# EAGLE library part TC4427ACOA713 (library MotorBoardDev)
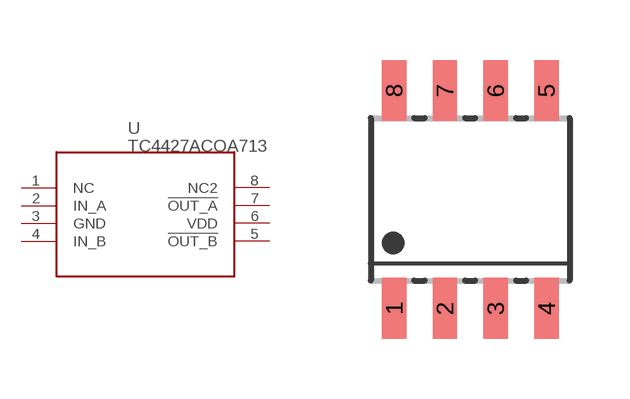
[diagram p12: symbol with the pads of SOIC-8; footprint SOIC-8]

Designator prefix U

## TC4427ACOA713  [SOIC-8]
1  NC
2  IN_A
3  GND
4  IN_B
5  !OUT_B
6  VDD
7  !OUT_A
8  NC2

## Footprint SOIC-8 (pad centres in mm)
8-pin SOIC Surface Mount high = 3.13 - 3.63mm Source: Data sheet <http://www.fairchildsemi.com/ds/MO%2FMOCD207-M.pdf>
smd 0.61 x 1.52: 1 -1.905,-2.723; 2 -0.635,-2.723; 3 0.635,-2.723; 4 1.905,-2.723; 5 1.905,2.723; 6 0.635,2.723; 7 -0.635,2.723; 8 -1.905,2.723